# Altium schematic symbol library isense.SchLib: 1 symbol
Pins are listed as number, name and electrical type; pins without a type are passive.

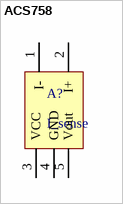
[diagram p0: symbol ACS758]

## ACS758
designator A?, comment I_sense
Current Sensor
footprint CurrentSensor
pins: 1 I-, 2 I+, 3 VCC, 4 GND, 5 Vout